# Altium footprint library Conn_Tianli_T-800.PcbLib: 1 footprints
Each footprint in its own frame and in the unit in brackets; x right, y up, seen from the top. Pads: shape width x height; smd on the part's side, far side on the other; paste and mask are expansions set on the pad; w line width, h text height; cw(c..) or ccw(c..) is an arc to the next point about the centre after c.
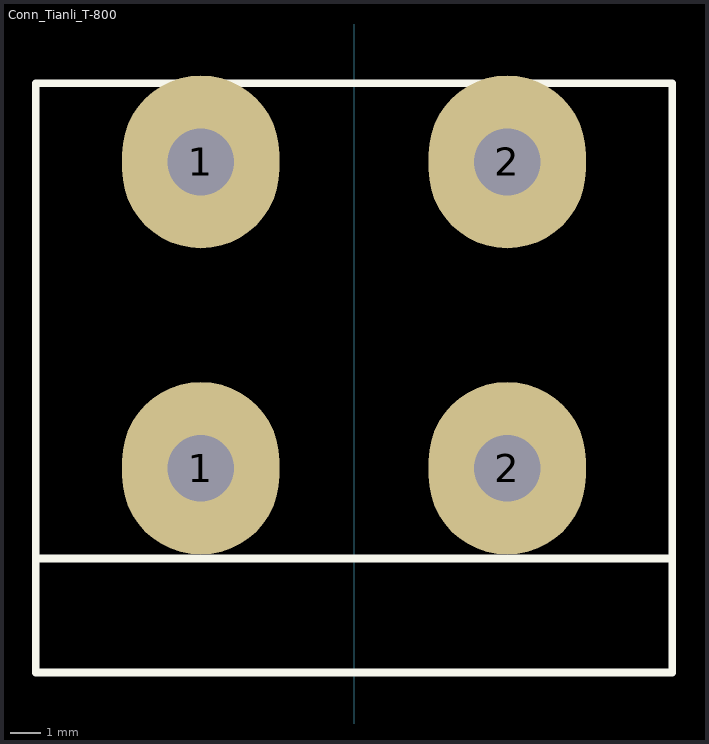
[diagram p0: the footprint, top view; thin cyan lines are the x and y axes]

## Conn_Tianli_T-800 [mil]
pads (4):
  oval 200x220 hole 85: 1(-195,1150) 1(-195,1540) 2(195,1150) 2(195,1540)
Top Overlay:
  lines w10: -405,1640 405,1640 ; -405,1640 -405,890 405,890 405,1640 ; -405,1640 405,1640 ; -405,1640 -405,1035 405,1035 405,1640
Bottom Overlay:
  lines w10: 0,890 0,1640 ; -405,890 405,890 405,1640 -405,1640 -405,890
3D body "TIANLI TL-800.STEP": height 1210.55, standoff -185.12, extent -403.54,895.31 403.54,1637.44